# EAGLE library part HEADER-8P (library Deegou_Connector)
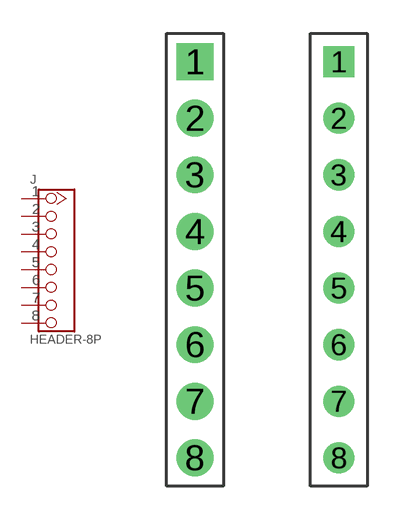
[diagram p55: symbol with the pads of 8P-2.54; footprints 8P-2.54, 8P-2.54-55/35MIL]

Designator prefix J

## HEADER-8P-2.54  [8P-2.54]
1  1
2  2
3  3
4  4
5  5
6  6
7  7
8  8

## HEADER-8P-55/35MIL  [8P-2.54-55/35MIL]
Pads as for 8P-2.54

## HEADER-8P-80/40MIL  [8P-2.54-80/40MIL]
Pads as for 8P-2.54

## HEADER-8P-2.54-SMD  [8P-2.54-SMD]
Pads as for 8P-2.54

## HEADER-8P-F90  [8P-2.54-FEMALE-90D]
Pads as for 8P-2.54

## HEADER-8P-M90  [8P-2.54-MALE-90D]
Pads as for 8P-2.54

## HEADER-8P-60/35MIL  [8P-2.54-60/35MIL]
Pads as for 8P-2.54

## HEADER-8P-1.27-THT  [1X8P-1.27-THT]
P$1  1
P$2  2
P$3  3
P$4  4
P$5  5
P$6  6
P$7  7
P$8  8

## HEADER-8P-1.25MM  [1.25MM-8P]
Pads as for 1X8P-1.27-THT

## HEADER-8P-5.08  [8P-SCREW-5.08]
Pads as for 8P-2.54

## Footprint 8P-2.54 (pad centres in mm)
drill 0.889 pad 1.651 square: 1 0,8.89
drill 0.889 pad 1.651: 2 0,6.35; 3 0,3.81; 4 0,1.27; 5 0,-1.27; 6 0,-3.81; 7 0,-6.35; 8 0,-8.89

## Footprint 8P-2.54-55/35MIL (pad centres in mm)
drill 0.889 pad 1.397 square: 1 0,8.89
drill 0.889 pad 1.397: 2 0,6.35; 3 0,3.81; 4 0,1.27; 5 0,-1.27; 6 0,-3.81; 7 0,-6.35; 8 0,-8.89

## Footprint 8P-2.54-80/40MIL (pad centres in mm)
drill 1.016 pad 2.032 square: 1 0,8.89
drill 1.016 pad 2.032: 2 0,6.35; 3 0,3.81; 4 0,1.27; 5 0,-1.27; 6 0,-3.81; 7 0,-6.35; 8 0,-8.89

## Footprint 8P-2.54-SMD (pad centres in mm)
smd 3.048 x 1.524: 1 -1.27,8.89; 2 1.27,6.35; 3 -1.27,3.81; 4 1.27,1.27; 5 -1.27,-1.27; 6 1.27,-3.81; 7 -1.27,-6.35; 8 1.27,-8.89

## Footprint 8P-2.54-FEMALE-90D (pad centres in mm)
drill 0.889 pad 1.651 square: 1 0,8.89
drill 0.889 pad 1.651: 2 0,6.35; 3 0,3.81; 4 0,1.27; 5 0,-1.27; 6 0,-3.81; 7 0,-6.35; 8 0,-8.89

## Footprint 8P-2.54-MALE-90D (pad centres in mm)
drill 0.889 pad 1.651 square: 1 0,8.89
drill 0.889 pad 1.651: 2 0,6.35; 3 0,3.81; 4 0,1.27; 5 0,-1.27; 6 0,-3.81; 7 0,-6.35; 8 0,-8.89

## Footprint 8P-2.54-60/35MIL (pad centres in mm)
drill 0.889 pad 1.651 square: 1 0,8.89
drill 0.889 pad 1.651: 2 0,6.35; 3 0,3.81; 4 0,1.27; 5 0,-1.27; 6 0,-3.81; 7 0,-6.35; 8 0,-8.89

## Footprint 1X8P-1.27-THT (pad centres in mm)
drill 0.55: P$1 -4.445,0; P$2 -3.175,0; P$3 -1.905,0; P$4 -0.635,0; P$5 0.635,0; P$6 1.905,0; P$7 3.175,0; P$8 4.445,0

## Footprint 1.25MM-8P (pad centres in mm)
smd 0.6 x 1.8: P$1 -3.75,0; P$2 -2.5,0; P$3 -1.25,0; P$4 0,0; P$5 1.25,0; P$6 2.5,0; P$7 3.75,0; P$8 5,0
smd 2.1 x 3: P$9 -6.3,2.9; P$10 7.55,2.9

## Footprint 8P-SCREW-5.08 (pad centres in mm)
drill 1.4 pad 2.54: 1 -17.78,0; 2 -12.7,0; 3 -7.62,0; 4 -2.54,0; 5 2.54,0; 6 7.62,0; 7 12.7,0; 8 17.78,0